# Altium footprint library myICs.PcbLib: 56 footprints (part 2 of 4)
Each footprint in its own frame and in the unit in brackets; x right, y up, seen from the top. Pads: shape width x height; smd on the part's side, far side on the other; paste and mask are expansions set on the pad; w line width, h text height; cw(c..) or ccw(c..) is an arc to the next point about the centre after c.
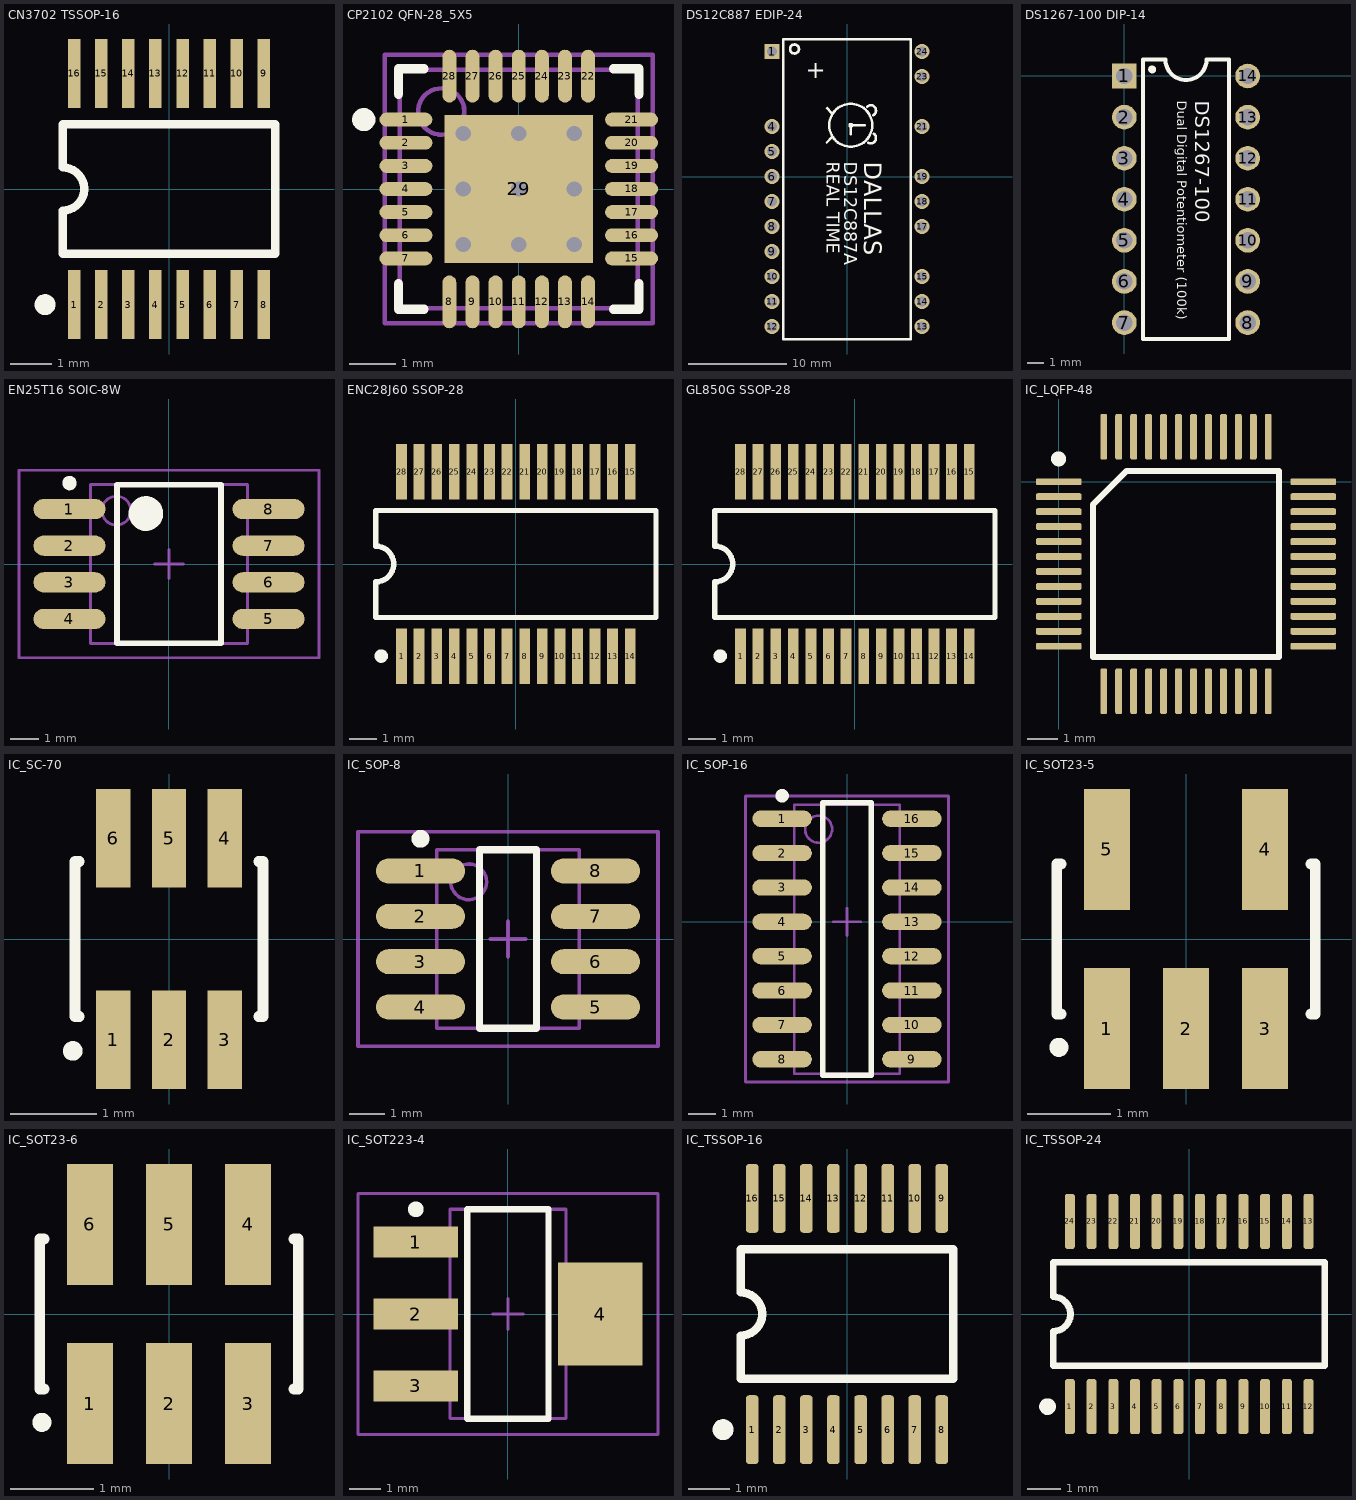
[diagram p1: the footprints below, top view; thin cyan lines are the x and y axes]

## CN3702 TSSOP-16 [mm] "Shrink Small Outline; 16 Leads; Body Width 4.4 mm; Pitch 0.65 mm"
height 1.2
pads (16):
  rect 0.3x1.65 smd: 1(-2.275,-2.775) 2(-1.625,-2.775) 3(-0.975,-2.775) 4(-0.325,-2.775) 5(0.325,-2.775) 6(0.975,-2.775) 7(1.625,-2.775) 8(2.275,-2.775) 9(2.275,2.775) 10(1.625,2.775) 11(0.975,2.775) 12(0.325,2.775) 13(-0.325,2.775) 14(-0.975,2.775) 15(-1.625,2.775) 16(-2.275,2.775)
Top Overlay:
  circle w0.25: c-2.975,-2.775 r0.125
  lines w0.2: -2.55,-1.55 -2.55,-0.517 ccw(c-2.55,0) -2.55,0.517 -2.55,1.55 2.55,1.55 2.55,-1.55 -2.55,-1.55
3D body: height 1.2, standoff 0, extent -2.54,-1.524 2.54,1.524

## CP2102 QFN-28_5X5 [mm] "QFN, 28-Leads, Body 5x5mm, Pitch 0.5mm, IPC High Density"
height 1
pads (29):
  oval 1.143x0.3 smd mask+0.076: 1(-2.439,1.5) 2(-2.439,1) 3(-2.439,0.5) 4(-2.439,0) 5(-2.439,-0.5) 6(-2.439,-1) 7(-2.439,-1.5) 15(2.439,-1.5) 16(2.439,-1) 17(2.439,-0.5) 18(2.439,0) 19(2.439,0.5) 20(2.439,1) 21(2.439,1.5)
  oval 0.3x1.143 smd mask+0.076: 8(-1.5,-2.439) 9(-1,-2.439) 10(-0.5,-2.439) 11(0,-2.439) 12(0.5,-2.439) 13(1,-2.439) 14(1.5,-2.439) 22(1.5,2.439) 23(1,2.439) 24(0.5,2.439) 25(0,2.439) 26(-0.5,2.439) 27(-1,2.439) 28(-1.5,2.439)
  rect 3.2x3.2 smd: 29(0,0)
via 1.2,-1.2 diameter 0.66 hole 0.33
via 0,-1.2 diameter 0.66 hole 0.33
via -1.2,-1.2 diameter 0.66 hole 0.33
via 1.2,0 diameter 0.66 hole 0.33
via 0,0 diameter 0.66 hole 0.33
via -1.2,0 diameter 0.66 hole 0.33
via 1.2,1.2 diameter 0.66 hole 0.33
via 0,1.2 diameter 0.66 hole 0.33
via -1.2,1.2 diameter 0.66 hole 0.33
Top Overlay:
  circle w0.25: c-3.35,1.5 r0.125
  lines w0.2: -2.6,-2.05 -2.6,-2.6 -2.05,-2.6 ; -2.6,2.05 -2.6,2.6 -2.05,2.6 ; 2.05,-2.6 2.6,-2.6 2.6,-2.05 ; 2.05,2.6 2.6,2.6 2.6,2.05
Mechanical 13:
  circle w0.1: c-1.675,1.675 r0.5
  lines w0.1: -2.575,-2.575 2.575,-2.575 2.575,2.575 -2.575,2.575 -2.575,-2.575
Mechanical 15:
  lines w0.1: -0.5,0 0.5,0 ; 0,-0.5 0,0.5 ; -2.9,-2.9 2.9,-2.9 2.9,2.9 -2.9,2.9 -2.9,-2.9
3D body: height 1, standoff 0, extent -2.575,-2.575 2.575,2.575

## DS12C887 EDIP-24 [mil]
pads (19):
  rect 60x60 hole 40: 1(-300,500)
  round 60 hole 40: 4(-300,200) 5(-300,100) 6(-300,0) 7(-300,-100) 8(-300,-200) 9(-300,-300) 10(-300,-400) 11(-300,-500) 12(-300,-600) 13(300,-600) 14(300,-500) 15(300,-400) 17(300,-200) 18(300,-100) 19(300,0) 21(300,200) 23(300,400) 24(300,500)
Top Overlay:
  circle w10: c-210,510 r18.03
  circle w10: c15,205 r86.02
  circle w10: c15,205 r5
  region: -80,130 -55.25,154.75 -62.32,161.82 -87.07,137.07
  region: -55,255 -79.75,279.75 -86.82,272.68 -62.07,247.93
  lines w10: 15,170 15,205 ; 80.61,279.33 cw(c94.9,263.66) 105,245 ; 85,135 ccw(c94.78,153.82) 107.64,170.69 ; 15,205 70,205 15,205 ; -255,-650 -255,550 255,550 255,-650 -255,-650
  text "+" at -165,370 h120
  text "DALLAS" at 45,60 h120
  text "DS12C887A" at -30,60 h87
  text "REAL TIME" at -100,60 h87
3D body: height 10, standoff 0, extent -365,-700 365,600

## DS1267-100 DIP-14 [mil]
pads (14):
  rect 60x60 hole 40: 1(0,0)
  round 60 hole 40: 2(0,-100) 3(0,-200) 4(0,-300) 5(0,-400) 6(0,-500) 7(0,-600) 8(300,-600) 9(300,-500) 10(300,-400) 11(300,-300) 12(300,-200) 13(300,-100) 14(300,0)
Top Overlay:
  circle w10: c67.53,16 r4.47
  lines w10: 45,-640 255,-640 255,40 200,40 cw(c150,40) 100,40 45,40 45,-640
  text "DS1267-100" at 160,-60 h60
  text "Dual Digital Potentiometer (100k)" at 120,-60 h40
3D body: height 10, standoff 0, extent 45,-640 255,40

## EN25T16 SOIC-8W [mm] "SOIC, 8-Leads, Body 5.4x5.4mm, Pitch 1.27mm"
height 1.75
pads (8):
  oval 2.5x0.7 smd: 1(-3.45,1.905) 2(-3.45,0.635) 3(-3.45,-0.635) 4(-3.45,-1.905) 5(3.45,-1.905) 6(3.45,-0.635) 7(3.45,0.635) 8(3.45,1.905)
Top Overlay:
  circle w0.25: c-3.45,2.805 r0.125
  circle w0.6: c-0.8,1.75 r0.3
  lines w0.2: -1.8,-2.75 -1.8,2.75 1.8,2.75 1.8,-2.75 -1.8,-2.75
Mechanical 13:
  circle w0.1: c-1.825,1.85 r0.5
  lines w0.1: -2.725,-2.75 -2.725,2.75 2.725,2.75 2.725,-2.75 -2.725,-2.75
Mechanical 15:
  lines w0.1: -0.5,0 0.5,0 ; 0,-0.5 0,0.5 ; -5.2,-3.25 -5.2,3.25 5.2,3.25 5.2,-3.25 -5.2,-3.25
3D body: height 2.13, standoff 0, extent -2.725,-2.75 2.725,2.75

## ENC28J60 SSOP-28 [mm] "SSOP, Plastic; 28 Leads; Body Width 5.2 mm; Pitch 0.65 mm"
height 1.99
pads (28):
  rect 0.4x2.05 smd: 1(-4.225,-3.4) 2(-3.575,-3.4) 3(-2.925,-3.4) 4(-2.275,-3.4) 5(-1.625,-3.4) 6(-0.975,-3.4) 7(-0.325,-3.4) 8(0.325,-3.4) 9(0.975,-3.4) 10(1.625,-3.4) 11(2.275,-3.4) 12(2.925,-3.4) 13(3.575,-3.4) 14(4.225,-3.4) 15(4.225,3.4) 16(3.575,3.4) 17(2.925,3.4) 18(2.275,3.4) 19(1.625,3.4) 20(0.975,3.4) 21(0.325,3.4) 22(-0.325,3.4) 23(-0.975,3.4) 24(-1.625,3.4) 25(-2.275,3.4) 26(-2.925,3.4) 27(-3.575,3.4) 28(-4.225,3.4)
Top Overlay:
  circle w0.25: c-4.975,-3.4 r0.125
  lines w0.2: -5.175,-1.975 5.175,-1.975 5.175,1.975 -5.175,1.975 -5.175,0.658 cw(c-5.175,0) -5.175,-0.658 -5.175,-1.975
3D body: height 0.25, standoff 0, extent -5.207,-2.032 5.207,2.032

## GL850G SSOP-28 [mm] "SSOP, Plastic; 28 Leads; Body Width 5.2 mm; Pitch 0.65 mm"
height 1.99
pads (28):
  rect 0.4x2.05 smd: 1(-4.225,-3.4) 2(-3.575,-3.4) 3(-2.925,-3.4) 4(-2.275,-3.4) 5(-1.625,-3.4) 6(-0.975,-3.4) 7(-0.325,-3.4) 8(0.325,-3.4) 9(0.975,-3.4) 10(1.625,-3.4) 11(2.275,-3.4) 12(2.925,-3.4) 13(3.575,-3.4) 14(4.225,-3.4) 15(4.225,3.4) 16(3.575,3.4) 17(2.925,3.4) 18(2.275,3.4) 19(1.625,3.4) 20(0.975,3.4) 21(0.325,3.4) 22(-0.325,3.4) 23(-0.975,3.4) 24(-1.625,3.4) 25(-2.275,3.4) 26(-2.925,3.4) 27(-3.575,3.4) 28(-4.225,3.4)
Top Overlay:
  circle w0.25: c-4.975,-3.4 r0.125
  lines w0.2: -5.175,-1.975 5.175,-1.975 5.175,1.975 -5.175,1.975 -5.175,0.658 cw(c-5.175,0) -5.175,-0.658 -5.175,-1.975
3D body: height 0.25, standoff 0, extent -5.207,-2.032 5.207,2.032

## IC_LQFP-48 [mil]
height 62.99
pads (48):
  rrect50% 60x9 smd: 1(0,0) 2(0,-19.68) 3(0,-39.37) 4(0,-59.05) 5(0,-78.74) 6(0,-98.42) 7(0,-118.11) 8(0,-137.79) 9(0,-157.48) 10(0,-177.16) 11(0,-196.85) 12(0,-216.53) 25(334.65,-216.53) 26(334.65,-196.85) 27(334.65,-177.16) 28(334.65,-157.48) 29(334.65,-137.79) 30(334.65,-118.11) 31(334.65,-98.42) 32(334.65,-78.74) 33(334.65,-59.05) 34(334.65,-39.37) 35(334.65,-19.68) 36(334.65,0)
  rrect50% 9x60 smd: 13(59.06,-275.59) 14(78.74,-275.59) 15(98.43,-275.59) 16(118.11,-275.59) 17(137.8,-275.59) 18(157.48,-275.59) 19(177.17,-275.59) 20(196.85,-275.59) 21(216.54,-275.59) 22(236.22,-275.59) 23(255.91,-275.59) 24(275.59,-275.59) 37(275.59,59.06) 38(255.91,59.06) 39(236.22,59.06) 40(216.54,59.06) 41(196.85,59.06) 42(177.17,59.06) 43(157.48,59.06) 44(137.8,59.06) 45(118.11,59.06) 46(98.43,59.06) 47(78.74,59.06) 48(59.06,59.06)
Top Overlay:
  circle w9.84: c-0.32,30.05 r4.92
  lines w7.87: 44.69,-230.91 289.96,-230.91 289.96,14.37 89.37,14.37 44.69,-30.31 44.69,-230.91
3D body: height 62.99, standoff 0, extent 40,-230 290,20

## IC_SC-70 [mm] "DCK/SC-70; 6 Leads"
height 1.1
pads (6):
  rect 0.4x1.143 smd: 1(-0.65,-1.172) 2(0,-1.172) 3(0.65,-1.172) 4(0.65,1.172) 5(0,1.172) 6(-0.65,1.172)
Top Overlay:
  circle w0.127: c-1.119,-1.3 r0.05
  lines w0.127: -1.043,-0.9 -1.093,-0.9 -1.093,0.9 -1.043,0.9 ; 1.043,-0.9 1.093,-0.9 1.093,0.9 1.043,0.9
3D body: height 1.45, standoff 0, extent -1.143,-0.889 1.143,0.889

## IC_SOP-8 [mm] "SOP-8"
height 1.75
pads (8):
  oval 2.5x0.7 smd: 1(-2.45,1.905) 2(-2.45,0.635) 3(-2.45,-0.635) 4(-2.45,-1.905) 5(2.45,-1.905) 6(2.45,-0.635) 7(2.45,0.635) 8(2.45,1.905)
Top Overlay:
  circle w0.25: c-2.45,2.805 r0.125
  lines w0.2: -0.8,-2.5 0.8,-2.5 0.8,2.5 -0.8,2.5 -0.8,-2.5
Mechanical 13:
  circle w0.1: c-1.1,1.6 r0.5
  lines w0.1: -2,-2.5 2,-2.5 2,2.5 -2,2.5 -2,-2.5
Mechanical 15:
  lines w0.1: -0.5,0 0.5,0 ; 0,-0.5 0,0.5 ; -4.2,-3 4.2,-3 4.2,3 -4.2,3 -4.2,-3
3D body: height 1.73, standoff 0, extent -2,-2.5 2,2.5

## IC_SOP-16 [mm] "SOP, 14-Leads, Body 8.7x3.9mm, Pitch 1.27mm, IPC Medium Density"
height 1.75
pads (16):
  oval 2.2x0.6 smd: 1(-2.4,3.81) 2(-2.4,2.54) 3(-2.4,1.27) 4(-2.4,0) 5(-2.4,-1.27) 6(-2.4,-2.54) 7(-2.4,-3.81) 8(-2.4,-5.08) 9(2.4,-5.08) 10(2.4,-3.81) 11(2.4,-2.54) 12(2.4,-1.27) 13(2.4,0) 14(2.4,1.27) 15(2.4,2.54) 16(2.4,3.81)
Top Overlay:
  circle w0.25: c-2.4,4.66 r0.125
  lines w0.2: -0.9,-5.67 -0.9,4.4 0.9,4.4 0.9,-5.67 -0.9,-5.67
Mechanical 13:
  circle w0.1: c-1.05,3.425 r0.5
  lines w0.1: -1.95,-5.613 -1.95,4.325 1.95,4.325 1.95,-5.613 -1.95,-5.613
Mechanical 15:
  lines w0.1: -0.5,0 0.5,0 ; 0,-0.5 0,0.5 ; -3.75,-5.918 -3.75,4.65 3.75,4.65 3.75,-5.918 -3.75,-5.918
3D body: height 1.75, standoff 0, extent -1.956,-5.664 1.95,4.325

## IC_SOT23-5 [mm] "SOT-23/SC-74A; 5 Leads; Body 3 x 3 mm, inc. leads (LxW max)"
height 1.45
pads (5):
  rect 0.55x1.45 smd: 1(-0.95,-1.075) 2(0,-1.075) 3(0.95,-1.075) 4(0.95,1.075) 5(-0.95,1.075)
Top Overlay:
  circle w0.127: c-1.525,-1.3 r0.05
  lines w0.127: -1.5,-0.9 -1.55,-0.9 -1.55,0.9 -1.5,0.9 ; 1.5,-0.9 1.55,-0.9 1.55,0.9 1.5,0.9
3D body: height 1.45, standoff 0, extent -1.524,-0.889 1.524,0.889

## IC_SOT23-6 [mm] "SOT-23/SC-74A; 6 Leads; Body 3 x 3 mm, inc. leads (LxW max)"
height 1.45
pads (6):
  rect 0.55x1.45 smd: 1(-0.95,-1.075) 2(0,-1.075) 3(0.95,-1.075) 4(0.95,1.075) 5(0,1.075) 6(-0.95,1.075)
Top Overlay:
  circle w0.127: c-1.525,-1.3 r0.05
  lines w0.127: -1.5,-0.9 -1.55,-0.9 -1.55,0.9 -1.5,0.9 ; 1.5,-0.9 1.55,-0.9 1.55,0.9 1.5,0.9
3D body: height 1.45, standoff 0, extent -1.524,-0.889 1.524,0.889

## IC_SOT223-4 [mm] "SOT223, 4-Leads, Body 6.5x3.5mm, Pitch 2.3mm, Lead Span 7mm, IPC Low Density"
height 1.8
pads (4):
  rect 2.7x1 smd: 1(-2.95,2.3) 2(-2.95,0) 3(-2.95,-2.3)
  rect 2.7x3.3 smd: 4(2.95,0)
Top Overlay:
  circle w0.25: c-2.95,3.35 r0.125
  lines w0.2: -1.3,-3.35 1.3,-3.35 1.3,3.35 -1.3,3.35 -1.3,-3.35
Mechanical 13:
  lines w0.1: -1.85,-3.35 1.85,-3.35 1.85,3.35 -1.85,3.35 -1.85,-3.35
Mechanical 15:
  lines w0.1: -0.5,0 0.5,0 ; 0,-0.5 0,0.5 ; -4.8,-3.85 4.8,-3.85 4.8,3.85 -4.8,3.85 -4.8,-3.85
3D body: height 1.8, standoff 0, extent -1.85,-3.35 1.85,3.35

## IC_TSSOP-16 [mm] "Shrink Small Outline; 16 Leads; Body Width 4.4 mm; Pitch 0.65 mm"
height 1.2
pads (16):
  rrect50% 0.3x1.65 smd: 1(-2.275,-2.775) 2(-1.625,-2.775) 3(-0.975,-2.775) 4(-0.325,-2.775) 5(0.325,-2.775) 6(0.975,-2.775) 7(1.625,-2.775) 8(2.275,-2.775) 9(2.275,2.775) 10(1.625,2.775) 11(0.975,2.775) 12(0.325,2.775) 13(-0.325,2.775) 14(-0.975,2.775) 15(-1.625,2.775) 16(-2.275,2.775)
Top Overlay:
  circle w0.25: c-2.975,-2.775 r0.125
  lines w0.2: -2.55,-1.55 2.55,-1.55 2.55,1.55 -2.55,1.55 -2.55,0.517 cw(c-2.55,0) -2.55,-0.517 -2.55,-1.55
3D body: height 1.2, standoff 0, extent -2.54,-1.524 2.54,1.524

## IC_TSSOP-24 [mm] "Shrink Small Outline; 16 Leads; Body Width 4.4 mm; Pitch 0.65 mm"
height 1.2
pads (24):
  rrect50% 0.3x1.65 smd: 1(-3.575,-2.775) 2(-2.925,-2.775) 3(-2.275,-2.775) 4(-1.625,-2.775) 5(-0.975,-2.775) 6(-0.325,-2.775) 7(0.325,-2.775) 8(0.975,-2.775) 9(1.625,-2.775) 10(2.275,-2.775) 11(2.925,-2.775) 12(3.575,-2.775) 13(3.575,2.775) 14(2.925,2.775) 15(2.275,2.775) 16(1.625,2.775) 17(0.975,2.775) 18(0.325,2.775) 19(-0.325,2.775) 20(-0.975,2.775) 21(-1.625,2.775) 22(-2.275,2.775) 23(-2.925,2.775) 24(-3.575,2.775)
Top Overlay:
  circle w0.25: c-4.245,-2.775 r0.125
  lines w0.2: -4.074,-1.55 -4.074,-0.517 ccw(c-4.074,0) -4.074,0.517 -4.074,1.55 ; -4.064,-1.55 4.064,-1.55 4.064,1.55 -4.064,1.55
3D body: height 1.2, standoff 0, extent -4.064,-1.524 4.064,1.524